# Altium footprint library GH_PcbLib.PcbLib: 29 footprints (part 2 of 2)
Each footprint in its own frame and in the unit in brackets; x right, y up, seen from the top. Pads: shape width x height; smd on the part's side, far side on the other; paste and mask are expansions set on the pad; w line width, h text height; cw(c..) or ccw(c..) is an arc to the next point about the centre after c.
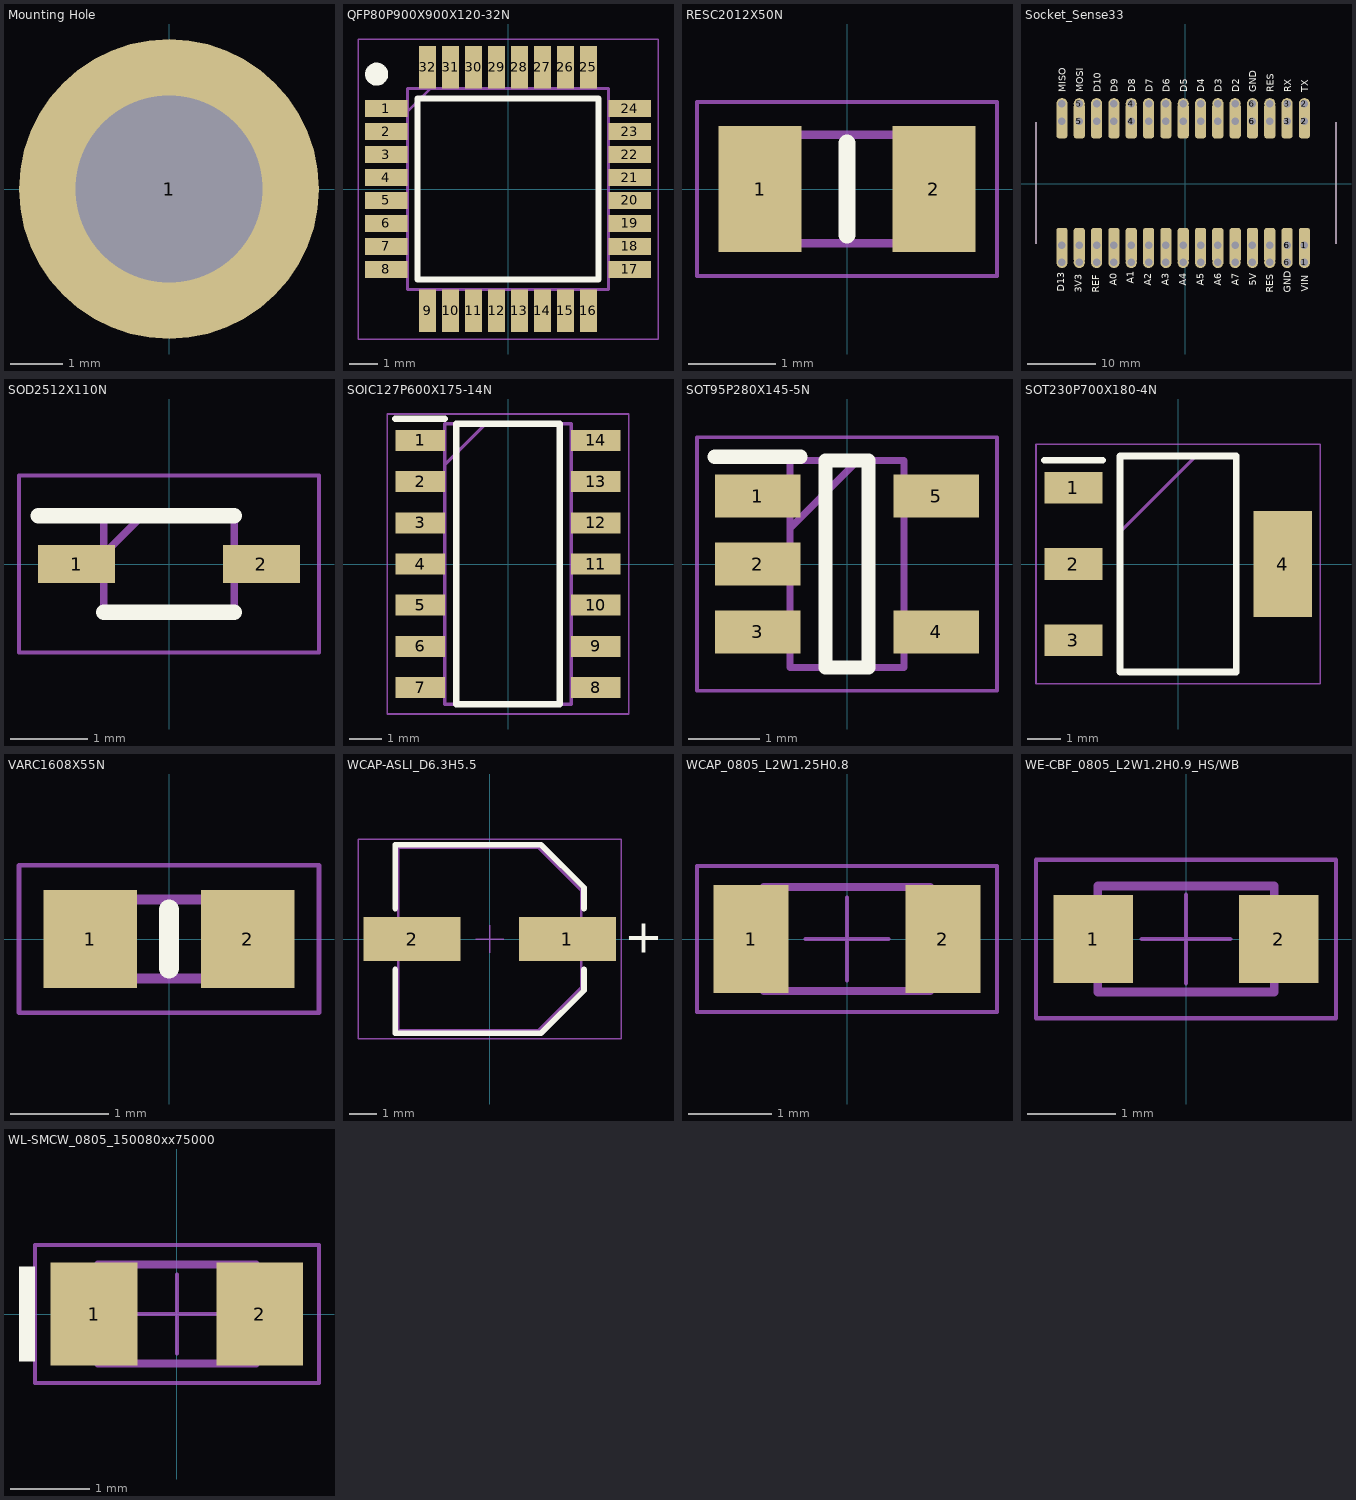
[diagram p1: the footprints below, top view; thin cyan lines are the x and y axes]

## Mounting Hole [mil]
pads (1):
  round 225 hole 140: 1(0,0)

## QFP80P900X900X120-32N [mm]
pads (32):
  rect 1.475x0.6 smd: 1(-4.238,2.8) 2(-4.238,2) 3(-4.238,1.2) 4(-4.238,0.4) 5(-4.238,-0.4) 6(-4.238,-1.2) 7(-4.238,-2) 8(-4.238,-2.8) 17(4.238,-2.8) 18(4.238,-2) 19(4.238,-1.2) 20(4.238,-0.4) 21(4.238,0.4) 22(4.238,1.2) 23(4.238,2) 24(4.238,2.8)
  rect 0.6x1.475 smd: 9(-2.8,-4.238) 10(-2,-4.238) 11(-1.2,-4.238) 12(-0.4,-4.238) 13(0.4,-4.238) 14(1.2,-4.238) 15(2,-4.238) 16(2.8,-4.238) 25(2.8,4.238) 26(2,4.238) 27(1.2,4.238) 28(0.4,4.238) 29(-0.4,4.238) 30(-1.2,4.238) 31(-2,4.238) 32(-2.8,4.238)
Top Overlay:
  circle w0.4: c-4.575,4 r0.2
  lines w0.2: -3.15,-3.15 -3.15,3.15 3.15,3.15 3.15,-3.15 -3.15,-3.15
Mechanical 13:
  lines w0.1: -3.5,2.7 -2.7,3.5 ; -3.5,-3.5 -3.5,3.5 3.5,3.5 3.5,-3.5 -3.5,-3.5
Mechanical 15:
  lines w0.05: -5.225,-5.225 -5.225,5.225 5.225,5.225 5.225,-5.225 -5.225,-5.225
3D body "ATMEGA16U2-AU.stp": height 1.2, standoff 0, extent -4.5,-4.5 4.5,4.5

## RESC2012X50N [mm]
pads (2):
  rect 0.95x1.45 smd: 1(-1,0) 2(1,0)
Top Overlay:
  lines w0.2: 0,-0.525 0,0.525
Mechanical 13:
  lines w0.1: -1.025,-0.625 1.025,-0.625 1.025,0.625 -1.025,0.625 -1.025,-0.625
Mechanical 15:
  lines w0.05: -1.725,-1 1.725,-1 1.725,1 -1.725,1 -1.725,-1
3D body "CRCW08055K60JNEA.stp": height 0.5, standoff 0, extent -1.025,-0.625 1.025,0.625

## Socket_Sense33 [mm] "custom socket for Sense33"
pads (90):
  round 1.65 hole 1.1: 1(17.455,-11.532) 1(17.455,-8.992) 2(17.455,9.208) 2(17.455,11.748) 3(14.915,9.208) 3(14.915,11.748) 4(-7.945,9.208) 4(-7.945,11.748) 5(-15.565,9.208) 5(-15.565,11.748) 6(9.835,9.208) 6(9.835,11.748) 6(14.915,-11.532) 6(14.915,-8.992) ""(-18.105,-11.532) ""(-18.105,-8.992) ""(-18.105,9.208) ""(-18.105,11.748) ""(-15.565,-11.532) ""(-15.565,-8.992) ""(-13.025,-11.532) ""(-13.025,-8.992) ""(-13.025,9.208) ""(-13.025,11.748) ""(-10.485,-11.532) ""(-10.485,-8.992) ""(-10.485,9.208) ""(-10.485,11.748) ""(-7.945,-11.532) ""(-7.945,-8.992) ""(-5.405,-11.532) ""(-5.405,-8.992) ""(-5.405,9.208) ""(-5.405,11.748) ""(-2.865,-11.532) ""(-2.865,-8.992) ""(-2.865,9.208) ""(-2.865,11.748) ""(-0.325,-11.532) ""(-0.325,-8.992) ""(-0.325,9.208) ""(-0.325,11.748) ""(2.215,-11.532) ""(2.215,-8.992) ""(2.215,9.208) ""(2.215,11.748) ""(4.755,-11.532) ""(4.755,-8.992) ""(4.755,9.208) ""(4.755,11.748) ""(7.295,-11.532) ""(7.295,-8.992) ""(7.295,9.208) ""(7.295,11.748) ""(9.835,-11.532) ""(9.835,-8.992) ""(12.375,-11.532) ""(12.375,-8.992) ""(12.375,9.208) ""(12.375,11.748)
  rrect50% 1.651x5.08 smd: 1(17.455,-8.992) 2(17.455,9.208) 3(14.915,9.208) 4(-7.945,9.208) 5(-15.565,9.208) 6(9.835,9.208) 6(14.915,-8.992) ""(-18.105,-8.992) ""(-18.105,9.208) ""(-15.565,-8.992) ""(-13.025,-8.992) ""(-13.025,9.208) ""(-10.485,-8.992) ""(-10.485,9.208) ""(-7.945,-8.992) ""(-5.405,-8.992) ""(-5.405,9.208) ""(-2.865,-8.992) ""(-2.865,9.208) ""(-0.325,-8.992) ""(-0.325,9.208) ""(2.215,-8.992) ""(2.215,9.208) ""(4.755,-8.992) ""(4.755,9.208) ""(7.295,-8.992) ""(7.295,9.208) ""(9.835,-8.992) ""(12.375,-8.992) ""(12.375,9.208)
Top Overlay:
  lines w0.127: -21.915,-8.782 -21.915,8.998 ; 22.085,-8.782 22.085,8.998
  text "RES" at 12.954,13.462 h1.02
  text "MISO" at -17.526,13.462 h1.02
  text "D10" at -12.446,13.462 h1.02
  text "MOSI" at -14.986,13.462 h1.02
  text "D7" at -4.826,13.462 h1.02
  text "D5" at 0.254,13.462 h1.02
  text "D6" at -2.286,13.462 h1.02
  text "D4" at 2.794,13.462 h1.02
  text "D2" at 7.874,13.462 h1.02
  text "D3" at 5.334,13.462 h1.02
  text "D13" at -17.78,-15.833 h1.02
  text "REF" at -12.664,-16.002 h1.02
  text "3V3" at -15.222,-16.002 h1.02
  text "A0" at -10.106,-14.986 h1.02
  text "A2" at -4.989,-14.986 h1.02
  text "A1" at -7.547,-14.648 h1.02
  text "A3" at -2.431,-14.986 h1.02
  text "A5" at 2.685,-14.986 h1.02
  text "A4" at 0.127,-14.986 h1.02
  text "A6" at 5.243,-14.986 h1.02
  text "5V" at 10.36,-14.986 h1.02
  text "A7" at 7.801,-14.986 h1.02
  text "RES" at 12.918,-16.002 h1.02
  text "D9" at -9.906,13.462 h1.02
  text "D8" at -7.366,13.462 h1.02
  text "TX" at 18.034,13.462 h1.02
  text "RX" at 15.494,13.462 h1.02
  text "GND" at 10.414,13.462 h1.02
  text "VIN" at 18.034,-15.833 h1.02
  text "GND" at 15.476,-16.002 h1.02
Mechanical 13:
  lines w0.127: 22.085,-8.782 22.085,8.998 ; -21.915,-8.782 -21.915,8.998 -21.915,-8.782

## SOD2512X110N [mm]
pads (2):
  rect 1x0.5 smd: 1(-1.2,0) 2(1.2,0)
Top Overlay:
  lines w0.2: -1.7,0.625 0.85,0.625 ; -0.85,-0.625 0.85,-0.625
Mechanical 13:
  lines w0.1: -0.85,0.125 -0.35,0.625 ; -0.85,-0.625 -0.85,0.625 0.85,0.625 0.85,-0.625 -0.85,-0.625
Mechanical 15:
  lines w0.05: -1.95,-1.15 -1.95,1.15 1.95,1.15 1.95,-1.15 -1.95,-1.15
3D body "BAT54HT1G.stp": height 1.1, standoff 0, extent -1.25,-0.625 1.25,0.625

## SOIC127P600X175-14N [mm]
pads (14):
  rect 1.525x0.65 smd: 1(-2.712,3.81) 2(-2.712,2.54) 3(-2.712,1.27) 4(-2.712,0) 5(-2.712,-1.27) 6(-2.712,-2.54) 7(-2.712,-3.81) 8(2.712,-3.81) 9(2.712,-2.54) 10(2.712,-1.27) 11(2.712,0) 12(2.712,1.27) 13(2.712,2.54) 14(2.712,3.81)
Top Overlay:
  lines w0.2: -3.475,4.485 -1.95,4.485 ; -1.6,-4.325 1.6,-4.325 1.6,4.325 -1.6,4.325 -1.6,-4.325
Mechanical 13:
  lines w0.1: -1.95,3.055 -0.68,4.325 ; -1.95,-4.325 1.95,-4.325 1.95,4.325 -1.95,4.325 -1.95,-4.325
Mechanical 15:
  lines w0.05: -3.725,-4.625 3.725,-4.625 3.725,4.625 -3.725,4.625 -3.725,-4.625
3D body "TXS0104EDR.stp": height 1.75, standoff 0, extent -3,-4.325 3,4.325

## SOT95P280X145-5N [mm]
pads (5):
  rect 1.2x0.6 smd: 1(-1.25,0.95) 2(-1.25,0) 3(-1.25,-0.95) 4(1.25,-0.95) 5(1.25,0.95)
Top Overlay:
  lines w0.2: -1.85,1.5 -0.65,1.5 ; -0.3,-1.45 0.3,-1.45 0.3,1.45 -0.3,1.45 -0.3,-1.45
Mechanical 13:
  lines w0.1: -0.8,0.5 0.15,1.45 ; -0.8,-1.45 0.8,-1.45 0.8,1.45 -0.8,1.45 -0.8,-1.45
Mechanical 15:
  lines w0.05: -2.1,-1.775 2.1,-1.775 2.1,1.775 -2.1,1.775 -2.1,-1.775
3D body "SN74AHC1G09DBVR.stp": height 1.2, standoff 0, extent -1.4,-1.45 1.4,1.45

## SOT230P700X180-4N [mm]
pads (4):
  rect 1.75x0.95 smd: 1(-3.15,2.3) 2(-3.15,0) 3(-3.15,-2.3)
  rect 1.75x3.2 smd: 4(3.15,0)
Top Overlay:
  lines w0.2: -4.025,3.125 -2.275,3.125 ; -1.75,-3.25 1.75,-3.25 1.75,3.25 -1.75,3.25 -1.75,-3.25
Mechanical 15:
  lines w0.1: -1.75,0.95 0.55,3.25 ; -1.75,-3.25 1.75,-3.25 1.75,3.25 -1.75,3.25 -1.75,-3.25
Mechanical 20:
  lines w0.05: -4.275,-3.6 4.275,-3.6 4.275,3.6 -4.275,3.6 -4.275,-3.6

## VARC1608X55N [mm]
pads (2):
  rect 0.95x1 smd: 1(-0.8,0) 2(0.8,0)
Top Overlay:
  lines w0.2: 0,-0.3 0,0.3
Mechanical 13:
  lines w0.1: -0.8,-0.4 -0.8,0.4 0.8,0.4 0.8,-0.4 -0.8,-0.4
Mechanical 15:
  lines w0.05: -1.525,-0.75 -1.525,0.75 1.525,0.75 1.525,-0.75 -1.525,-0.75
3D body "CG0603MLC-05E.stp": height 0.55, standoff 0, extent -0.8,-0.4 0.8,0.4

## WCAP-ASLI_D6.3H5.5 [mm] "Aluminium Electrolytic V-Chip SMT Capacitors, 6.3x5.5mm"
height 5.5
pads (2):
  rect 3.5x1.6 smd: 1(2.8,0) 2(-2.8,0)
Top Overlay:
  lines w0.2: -3.4,-1.1 -3.4,-3.4 1.85,-3.4 3.4,-1.85 3.4,-1.1 ; -3.4,1.1 -3.4,3.4 1.85,3.4 3.4,1.85 3.4,1.1
  text "+" at 4.85,-0.5 h1.22
Top Courtyard:
  lines w0.05: -0.5,0 0.5,0 ; 0,-0.5 0,0.5 ; -4.75,-3.6 4.75,-3.6 4.75,3.6 -4.75,3.6 -4.75,-3.6
Top 3D Body:
  lines w0.1: -3.3,-3.3 -3.3,3.3 1.75,3.3 3.3,1.75 3.3,-1.75 1.75,-3.3 -3.3,-3.3
Top Component Outline:
  lines w0.1: -3.3,-3.3 -3.3,3.3 1.75,3.3 3.3,1.75 3.3,-1.75 1.75,-3.3 -3.3,-3.3
Top Designator:
  text ".Designator" at -7.498,-0.5 h1.5
3D body "6.3x5.5x2.2.stp": height 5.5, standoff 0, extent -3.65,-3.3 3.65,3.3

## WCAP_0805_L2W1.25H0.8 [mm] "Ceramic Capacitors, body 2x1.25mm"
height 0.9
pads (2):
  rect 0.9x1.3 smd: 1(-1.15,0) 2(1.15,0)
Top Courtyard:
  lines w0.05: -1.8,-0.875 -1.8,0.875 1.8,0.875 1.8,-0.875 -1.8,-0.875
Top Component Outline:
  lines w0.1: -1,-0.625 -1,0.625 1,0.625 1,-0.625 -1,-0.625
Top Component Center:
  lines w0.05: -0.5,0 0.5,0 ; 0,-0.5 0,0.5
Top Designator:
  text ".Designator" at -3.499,-0.233 h0.7
3D body "CAPC2012X08N.step": height 0.8, standoff 0, extent -1,-0.625 1,0.625

## WE-CBF_0805_L2W1.2H0.9_HS/WB [mm] "SMD EMI Suppression Ferrite  Bead, body 2.00x1.20mm"
height 1.1
pads (2):
  rect 0.9x1 smd: 1(-1.05,0) 2(1.05,0)
Top Courtyard:
  lines w0.05: -1.7,-0.9 1.7,-0.9 1.7,0.9 -1.7,0.9 -1.7,-0.9
Top Component Outline:
  lines w0.1: -1,-0.6 1,-0.6 1,0.6 -1,0.6 -1,-0.6
Top Component Center:
  lines w0.05: -0.5,0 0.5,0 ; 0,-0.5 0,0.5
Top Designator:
  text ".Designator" at -2.499,-0.167 h0.5
3D body "WE-CBF_0805_CBF.stp": height 0.9, standoff 0, extent -1,-0.6 1,0.6

## WL-SMCW_0805_150080xx75000 [mm] "SMD Mono-color Chip LED, body 2.0x1.25mm"
height 0.7
pads (2):
  rect 1.1x1.3 smd: 1(-1.05,0) 2(1.05,0)
Top Overlay:
  rectangle: -2,-0.6 -1.8,0.6
Top Courtyard:
  lines w0.05: -0.5,0 0.5,0 ; 0,-0.5 0,0.5 ; -1.8,-0.875 -1.8,0.875 1.8,0.875 1.8,-0.875 -1.8,-0.875
Top Component Outline:
  rectangle: -1,-0.625 -0.7,0.625
  lines w0.1: -1,-0.625 -1,0.625 1,0.625 1,-0.625 -1,-0.625
Top Designator:
  text ".Designator" at -2.499,-0.167 h0.5
3D body "150080xxS75000.stp": height 0.7, standoff 0, extent -1,-0.625 1,0.625